# EAGLE library part ZIF (library quentin)
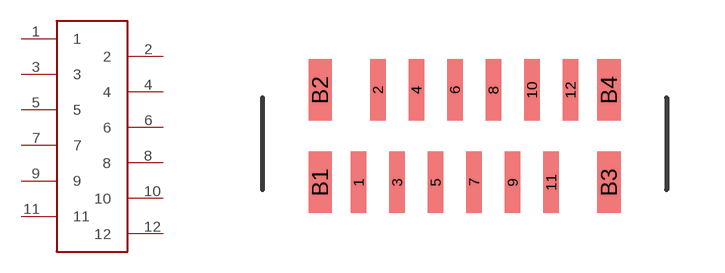
[diagram p14: symbol with the pads of ZIF_12PIN; footprint ZIF_12PIN]

Designator prefix -

## ZIF12PIN  [ZIF_12PIN]
1  1
2  2
3  3
4  4
5  5
6  6
7  7
8  8
9  9
10  10
11  11
12  12

## Footprint ZIF_12PIN (pad centres in mm)
smd 0.4 x 1.6: 1 0,0; 2 0.5,2.4; 3 1,0; 4 1.5,2.4; 5 2,0; 6 2.5,2.4; 7 3,0; 8 3.5,2.4; 9 4,0; 10 4.5,2.4; 11 5,0; 12 5.5,2.4
smd 0.6 x 1.6: B1 -1,0; B2 -1,2.4; B3 6.5,0; B4 6.5,2.4